# Altium footprint library C型车9S12XS主控板.PcbLib: 26 footprints (part 2 of 2)
Each footprint in its own frame and in the unit in brackets; x right, y up, seen from the top. Pads: shape width x height; smd on the part's side, far side on the other; paste and mask are expansions set on the pad; w line width, h text height; cw(c..) or ccw(c..) is an arc to the next point about the centre after c.
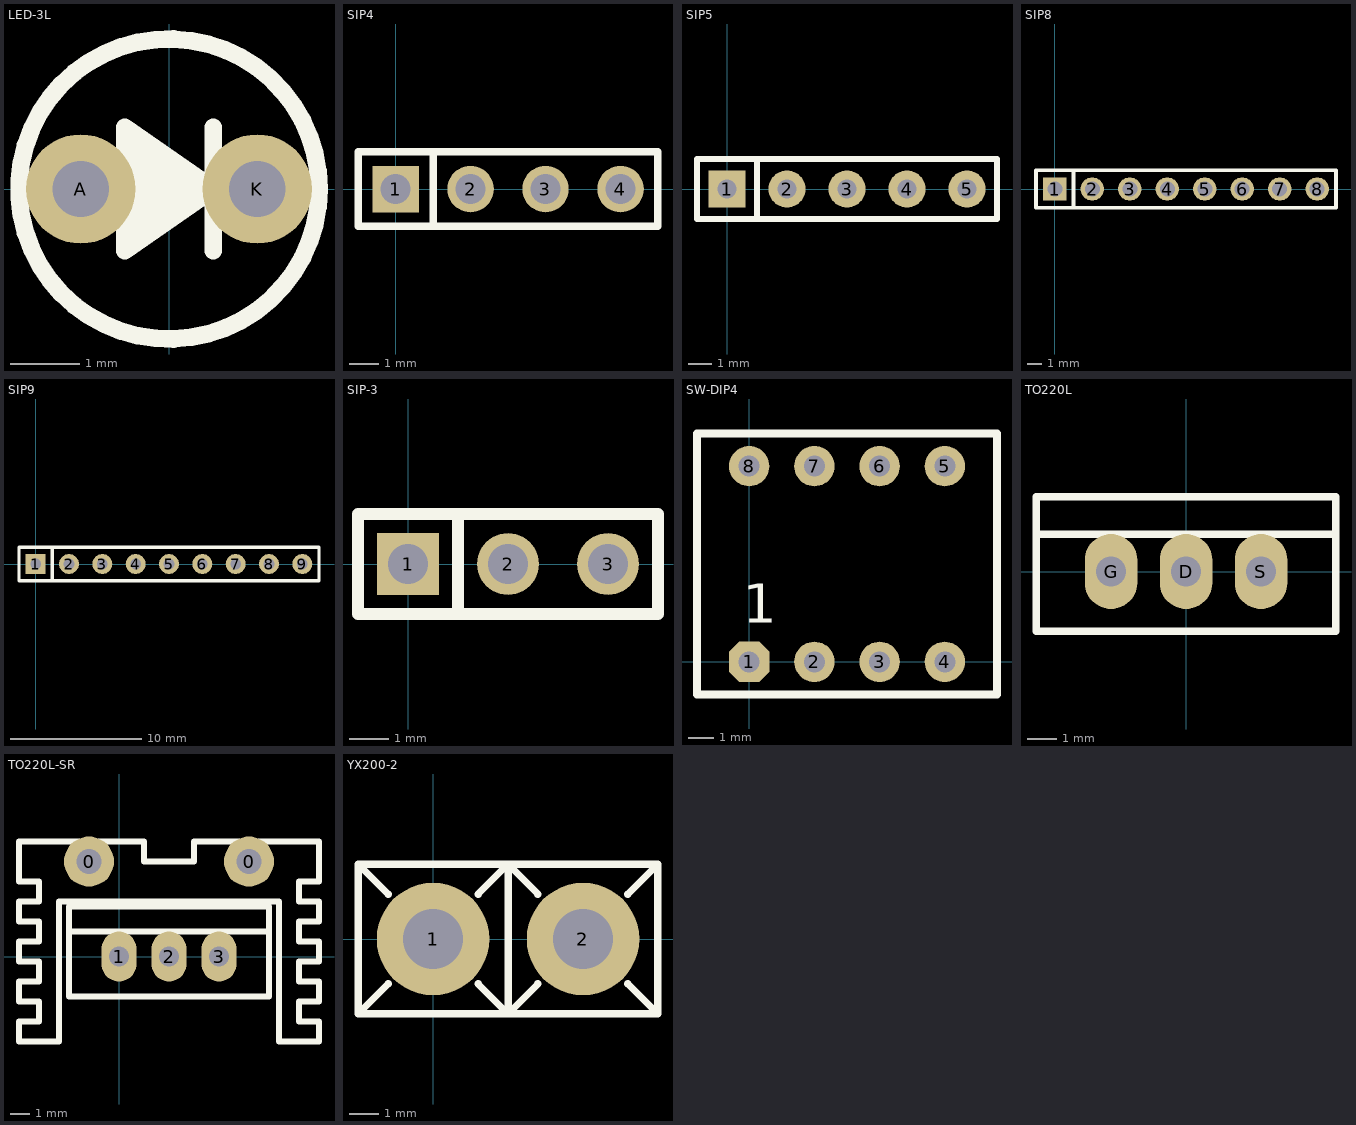
[diagram p1: the footprints below, top view; thin cyan lines are the x and y axes]

## LED-3L [mil]
pads (2):
  round 62 hole 32: A(-50,0) K(50,0)
Top Overlay:
  circle w10: c0,0 r85
  rectangle: -25,-30 -10,30
  rectangle: -10,-20 5,20
  rectangle: 5,-10 20,10
  lines w10: -50,0 -25,0 ; 25,-35 25,35 ; 50,0 25,0 ; 25,0 -25,-35 -25,35 25,0

## SIP4 [mil]
pads (4):
  rect 62x62 hole 40: 1(0,0)
  round 62 hole 40: 2(100,0) 3(200,0) 4(300,0)
Top Overlay:
  lines w10: 50,-50 50,50 ; -50,-50 350,-50 350,50 -50,50 -50,-50

## SIP5 [mil]
pads (5):
  rect 62x62 hole 32: 1(0,0)
  round 62 hole 32: 2(100,0) 3(200,0) 4(300,0) 5(400,0)
Top Overlay:
  lines w10: 50,-50 50,50 ; -50,-50 -50,50 450,50 450,-50 -50,-50

## SIP8 [mil]
pads (8):
  rect 62x62 hole 40: 1(0,0)
  round 62 hole 40: 2(100,0) 3(200,0) 4(300,0) 5(400,0) 6(500,0) 7(600,0) 8(700,0)
Top Overlay:
  lines w10: 50,-50 50,50 ; -50,-50 750,-50 750,50 -50,50 -50,-50

## SIP9 [mil]
pads (9):
  rect 60x60 hole 32: 1(0,0)
  round 60 hole 32: 2(100,0) 3(200,0) 4(300,0) 5(400,0) 6(500,0) 7(600,0) 8(700,0) 9(800,0)
Top Overlay:
  lines w10: 50,-50 50,50 ; -50,-50 -50,50 850,50 850,-50 -50,-50

## SIP-3 [mil]
pads (3):
  rect 62x62 hole 40: 1(0,0)
  round 62 hole 40: 2(100,0) 3(200,0)
Top Overlay:
  lines w12: 50,-50 50,50 ; -50,-50 -50,50 250,50 250,-50 -50,-50

## SW-DIP4 [mil]
pads (8):
  oct 62x62 hole 32: 1(0,0)
  round 62 hole 32: 2(100,0) 3(200,0) 4(300,0) 5(300,300) 6(200,300) 7(100,300) 8(0,300)
Top Overlay:
  lines w12: -80,-50 380,-50 380,350 -80,350 -80,-50
  text "1" at -10,60 h60

## TO220L [mil]
pads (3):
  oval 70x100 hole 40: D(0,0) G(-100,0) S(100,0)
Top Overlay:
  lines w10: -200,50 200,50 ; -200,-80 200,-80 200,100 -200,100 -200,-80

## TO220L-SR [mil]
pads (5):
  round 100 hole 50: 0(-60,190) 0(260,190)
  oval 70x100 hole 40: 1(0,0) 2(100,0) 3(200,0)
Top Overlay:
  lines w12: -100,50 300,50 ; -200,-170 -200,-130 -160,-130 -160,-90 -200,-90 -200,-50 -160,-50 -160,-10 -200,-10 -200,30 -160,30 -160,70 -200,70 -200,110 -160,110 -160,150 -200,150 -200,230 -80,230 -80,170 -40,170 -40,230 50,230 50,190 150,190 150,230 240,230 240,170 280,170 280,230 400,230 400,150 360,150 360,110 400,110 400,70 360,70 360,30 400,30 400,-10 360,-10 360,-50 400,-50 400,-90 360,-90 360,-130 400,-130 400,-170 320,-170 320,110 -120,110 -120,-170 -200,-170 ; -100,-80 -100,100 300,100 300,-80 -100,-80

## YX200-2 [mil]
pads (2):
  round 150 hole 80: 1(0,0) 2(200,0)
Top Overlay:
  lines w10: -60,-60 -100,-100 ; -60,60 -100,100 ; 60,-60 100,-100 ; 60,60 100,100 ; 140,-60 100,-100 ; 140,60 100,100 ; 260,-60 300,-100 ; 260,60 300,100 ; -100,-100 300,-100 ; -100,-100 -100,100 ; -100,100 300,100 ; 100,-100 100,100 ; 300,-100 300,100